# Altium footprint library ATK_DNESP32S3 V1.0.PcbLib: 41 footprints (part 3 of 3)
Each footprint in its own frame and in the unit in brackets; x right, y up, seen from the top. Pads: shape width x height; smd on the part's side, far side on the other; paste and mask are expansions set on the pad; w line width, h text height; cw(c..) or ccw(c..) is an arc to the next point about the centre after c.
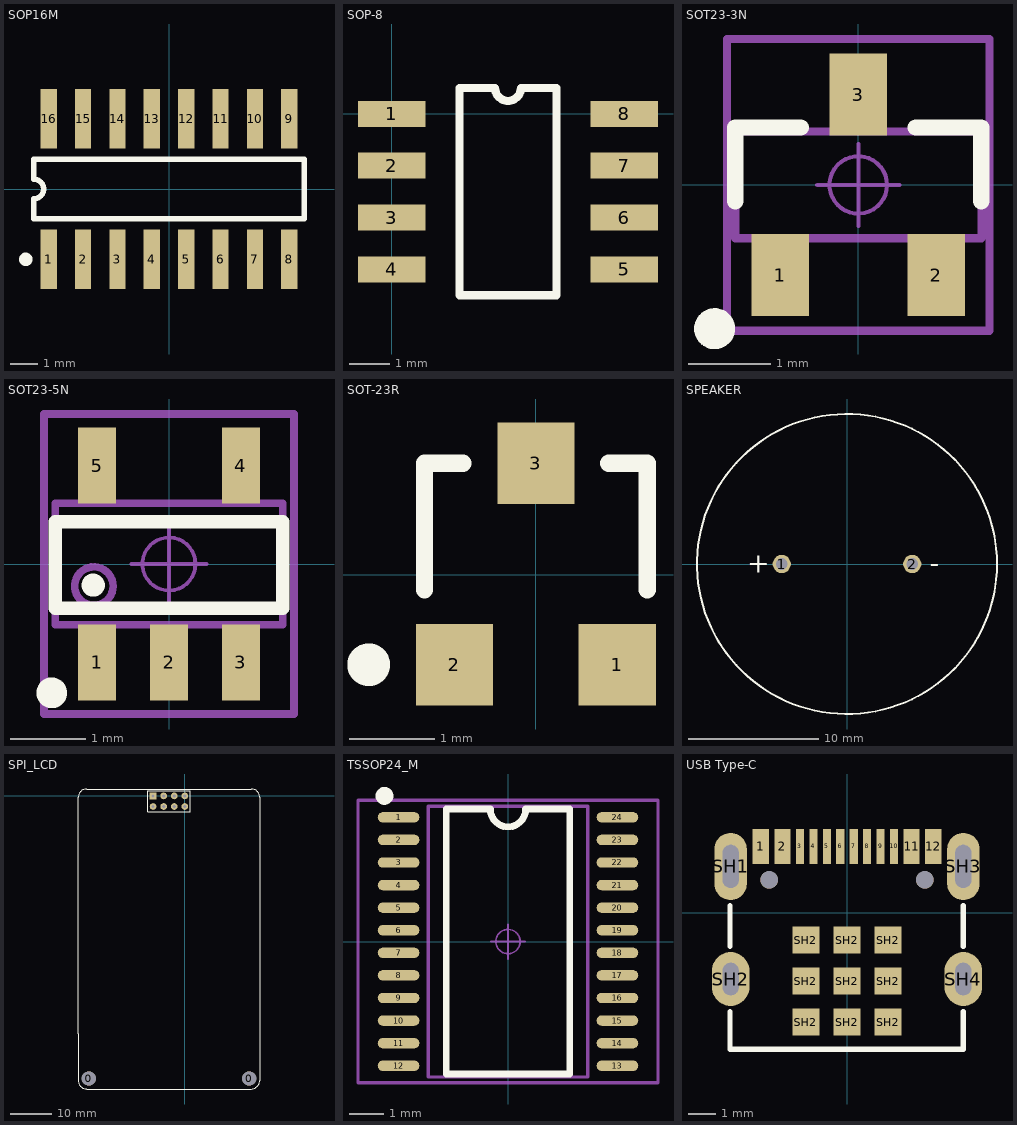
[diagram p2: the footprints below, top view; thin cyan lines are the x and y axes]

## SOP16M [mm] "Small Outline; 16 Leads; Body Width 3.9 mm; Pitch 1.27 mm"
height 1.75
pads (16):
  rect 0.6x2.2 smd: 1(-4.445,-2.6) 2(-3.175,-2.6) 3(-1.905,-2.6) 4(-0.635,-2.6) 5(0.635,-2.6) 6(1.905,-2.6) 7(3.175,-2.6) 8(4.445,-2.6) 9(4.445,2.6) 10(3.175,2.6) 11(1.905,2.6) 12(0.635,2.6) 13(-0.635,2.6) 14(-1.905,2.6) 15(-3.175,2.6) 16(-4.445,2.6)
Top Overlay:
  circle w0.25: c-5.295,-2.6 r0.125
  lines w0.2: -5,-1.1 5,-1.1 5,1.1 -5,1.1 -5,0.367 cw(c-5,0) -5,-0.367 -5,-1.1

## SOP-8 [mil] "SOP"
height 39.37
pads (8):
  rect 65x25 smd: 1(0,0) 2(0,-50) 3(0,-100) 4(0,-150) 5(224.41,-150) 6(224.41,-100) 7(224.41,-50) 8(224.41,0)
Top Overlay:
  lines w7.87: 65.37,-175 65.37,25 99.7,25 ccw(c112.2,25) 124.7,25 159.04,25 159.04,-175 65.37,-175

## SOT23-3N [mm] "3x1.3x1mm(长宽高)"
height 1.1
pads (3):
  rect 0.7x1 smd: 1(-0.95,-1.1) 2(0.95,-1.1) 3(0,1.1)
Top Overlay:
  circle w0.25: c-1.751,-1.753 r0.125
  lines w0.2: -1.501,-0.2 -1.501,0.7 -0.701,0.7 ; 0.699,0.7 1.499,0.7 1.499,-0.2
Mechanical 13:
  lines w0.1: -1.5,-0.65 -1.5,0.65 1.5,0.65 1.5,-0.65 -1.5,-0.65
Mechanical 15:
  circle w0.05: c0,0 r0.35
  lines w0.05: -0.5,0 0.5,0 ; 0,-0.5 0,0.5
  lines w0.1: -1.6,-1.778 -1.6,1.778 1.6,1.778 1.6,-1.778 -1.6,-1.778
3D body "SOT23-3.STEP": height 1.05, standoff 0, extent -1.5,-1.2 1.5,1.2

## SOT23-5N [mm] "3x1.6x1.1mm(长宽高)"
height 1.6
pads (5):
  rect 0.5x1 smd: 1(-0.95,-1.3) 2(0,-1.3) 3(0.95,-1.3) 4(0.95,1.3) 5(-0.95,1.3)
Top Overlay:
  circle w0.254: c-1.549,-1.702 r0.076
  circle w0.254: c-1.001,-0.279 r0.025
  lines w0.178: -1.5,-0.584 -1.5,0.559 1.5,0.559 1.5,-0.584 -1.5,-0.584
Mechanical 13:
  circle w0.1: c-0.992,-0.292 r0.254
  lines w0.1: -1.5,-0.8 -1.5,0.8 1.5,0.8 1.5,-0.8 -1.5,-0.8
Mechanical 15:
  circle w0.05: c0,0 r0.35
  lines w0.05: -0.5,0 0.5,0 ; 0,-0.5 0,0.5
  lines w0.1: -1.651,-1.981 1.651,-1.981 1.651,1.981 -1.651,1.981 -1.651,-1.981
3D body "SOT23-5.STEP": height 1.15, standoff -0.03, extent -1.5,-1.403 1.5,1.403

## SOT-23R [mm] "SOT-23; 3 Leads; Body 3.0 x 2.5 mm, inc. leads (LxW max)"
height 1.2
pads (3):
  rect 0.9x0.95 smd: 1(0.95,-1.048) 2(-0.95,-1.048) 3(0,1.302)
Top Overlay:
  circle w0.25: c-1.95,-1.048 r0.125
  lines w0.2: -1.3,-0.173 -1.3,1.302 -0.85,1.302 ; 0.85,1.302 1.3,1.302 1.3,-0.173

## SPEAKER [mm] "2307喇叭，8Ω，1W，23mm*7mm，2P"
height 7
pads (2):
  round 1.4 hole 0.9: 1(-5,0) 2(5,0)
Top Overlay:
  circle w0.152: c0,0 r11.5
  text "-" at 6.332,-0.653 h1.52
  text "+" at -7.638,-0.653 h1.52

## SPI_LCD [mm] "SPI_LCD"
height 10
pads (10):
  round 3.4 hole 3.4: 0(-23.042,-67.817) 0(15.443,-67.818)
  round 1.6 hole 0.8: 1(0,0) 2(0,-2.54) 3(-2.54,0) 4(-2.54,-2.54) 5(-5.08,0) 6(-5.08,-2.54) 8(-7.62,-2.54)
  rect 1.6x1.6 hole 0.8: 7(-7.62,0)
Top Overlay:
  lines w0.203: -23.553,-70.323 cw(c-23.553,-68.323) -25.553,-68.323 -25.553,-57.023 -25.553,-0.335 cw(c-23.553,-0.335) -23.569,1.665 15.956,1.665 cw(c15.958,-0.335) 17.958,-0.335 ; -23.546,-70.33 15.916,-70.33 ccw(c15.916,-68.295) 17.952,-68.295 17.952,-53.213 17.952,-0.335 ; -8.877,1.295 1.295,1.295 1.295,-3.785 -8.877,-3.785 -8.877,1.298
Bottom Overlay:
  lines w0.178: -9.464,-5.575 1.917,-5.576 ; -6.754,-7.2 -6.754,-3.776 ; -4.031,-7.2 -4.031,-3.776 ; -1.008,-7.2 -1.008,-3.776
  lines w0.2: -9.462,-7.201 -9.462,-3.785 1.96,-3.785 ; -9.45,-7.2 1.963,-7.2 1.963,-3.78
  lines w1.3: -20.648,-67.988 cw(c-23.042,-67.817) -20.642,-67.817 ; 17.837,-67.989 cw(c15.443,-67.818) 17.843,-67.818
  text "GND" at 1.715,-5.125 h0.89
  text "3V3" at 1.576,-6.775 h0.89
  text "SDA" at -4.255,-6.775 h0.89
  text "SCK" at -4.255,-5.125 h0.89
  text "PWR" at -1.207,-5.125 h0.89
  text "CS" at -1.844,-6.775 h0.89
  text "RST" at -6.969,-6.775 h0.89
  text "WR" at -7.115,-5.125 h0.89

## TSSOP24_M [mm] "7.8*6.4*1mm（长宽高）"
height 1.6
pads (24):
  oval 1.2x0.3 smd: 1(-3.15,3.575) 2(-3.15,2.925) 3(-3.15,2.275) 4(-3.15,1.625) 5(-3.15,0.975) 6(-3.15,0.325) 7(-3.15,-0.325) 8(-3.15,-0.975) 9(-3.15,-1.625) 10(-3.15,-2.275) 11(-3.15,-2.925) 12(-3.15,-3.575) 13(3.15,-3.575) 14(3.15,-2.925) 15(3.15,-2.275) 16(3.15,-1.625) 17(3.15,-0.975) 18(3.15,-0.325) 19(3.15,0.325) 20(3.15,0.975) 21(3.15,1.625) 22(3.15,2.275) 23(3.15,2.925) 24(3.15,3.575)
Top Overlay:
  circle w0.254: c-3.556,4.191 r0.13
  lines w0.2: -1.778,-3.81 1.778,-3.81 1.778,3.81 0.508,3.81 cw(c0,3.81) -0.508,3.81 -1.778,3.81 -1.778,-3.81
Mechanical 13:
  lines w0.1: -2.3,-3.9 2.3,-3.9 2.3,3.9 -2.3,3.9 -2.3,-3.9
Mechanical 15:
  circle w0.05: c0,0 r0.35
  lines w0.05: -0.5,0 0.5,0 ; 0,-0.5 0,0.5
  lines w0.1: -4.318,-4.064 4.318,-4.064 4.318,4.064 -4.318,4.064 -4.318,-4.064
3D body "TSSOP24.STEP": height 1.03, standoff -0.02, extent -3.202,-3.9 3.202,3.9

## USB Type-C [mm]
height 1.6
pads (27):
  rect 0.6x1.3 smd mask+0.064: 1(-3.2,2.462) 2(-2.4,2.462) 11(2.4,2.462) 12(3.2,2.462)
  rect 0.3x1.3 smd mask+0.064: 3(-1.75,2.462) 4(-1.25,2.462) 5(-0.75,2.462) 6(-0.25,2.463) 7(0.25,2.463) 8(0.75,2.462) 9(1.25,2.462) 10(1.75,2.462)
  oval 1.2x2.5 hole 0.6 slot 1.6 at 90 deg: SH1(-4.32,1.718) SH3(4.32,1.717)
  oval 1.4x2 hole 0.6 slot 1.2 at 90 deg: SH2(-4.32,-2.462) SH4(4.32,-2.462)
  rect 1x1 smd mask+0: SH2(-1.524,-4.064) SH2(-1.524,-2.54) SH2(-1.524,-1.016) SH2(0,-4.064) SH2(0,-2.54) SH2(0,-1.016) SH2(1.524,-4.064)
  rect 1x1 smd paste+0 mask+0: SH2(1.524,-2.54) SH2(1.524,-1.016)
  round 0.65 hole 0.65 unplated mask+0: ""(-2.89,1.218) ""(2.89,1.218)
Top Overlay:
  lines w0.2: -4.343,-3.683 -4.343,-5.066 4.32,-5.066 4.32,-3.683 ; -4.343,-1.245 -4.343,0.254 ; 4.318,-1.245 4.318,0.254
3D body "User Library-USB Type C Port (SMD Type).STEP": height 3.2, standoff -1, extent -4.47,-5.04 4.47,2.86